# Altium footprint library POT SMD.PcbLib: 1 footprints
Each footprint in its own frame and in the unit in brackets; x right, y up, seen from the top. Pads: shape width x height; smd on the part's side, far side on the other; paste and mask are expansions set on the pad; w line width, h text height; cw(c..) or ccw(c..) is an arc to the next point about the centre after c.
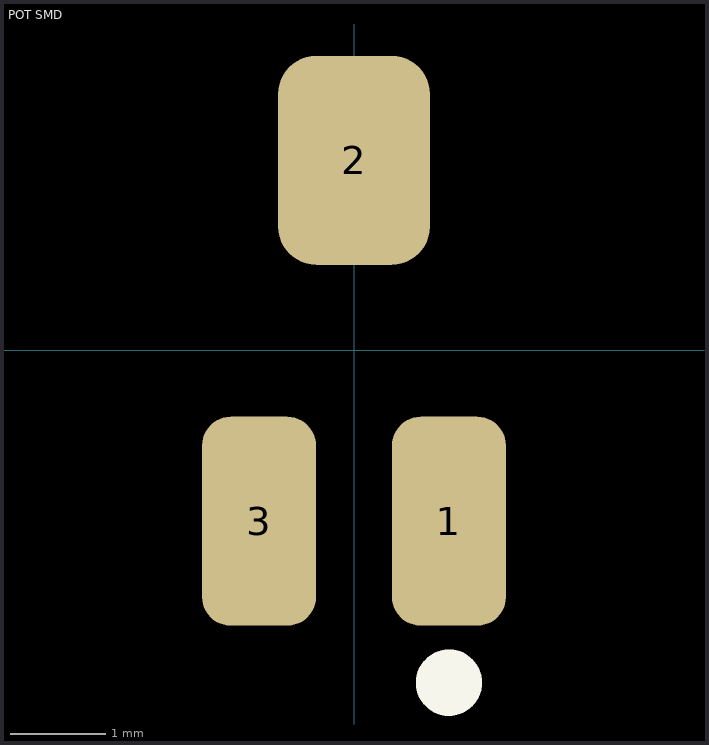
[diagram p0: the footprint, top view; thin cyan lines are the x and y axes]

## POT SMD [mm] "SMD Potentiometer NIDEC ST32EB"
pads (3):
  rrect50% 1.2x2.2 smd: 1(1,-1.8) 3(-1,-1.8)
  rrect50% 1.6x2.2 smd: 2(0,2)
Top Overlay:
  circle w0.5: c1,-3.5 r0.1
3D body "ST-32ETB200_(22).stp": height 2, standoff 0, extent -1.7,-2.2 1.7,2.2